# EAGLE library part RJ45-AMP (library graftel-internal-ic)
https://www.digikey.com/product-detail/en/te-connectivity-amp-connectors/6116075-4/6116075-4-ND/2259178
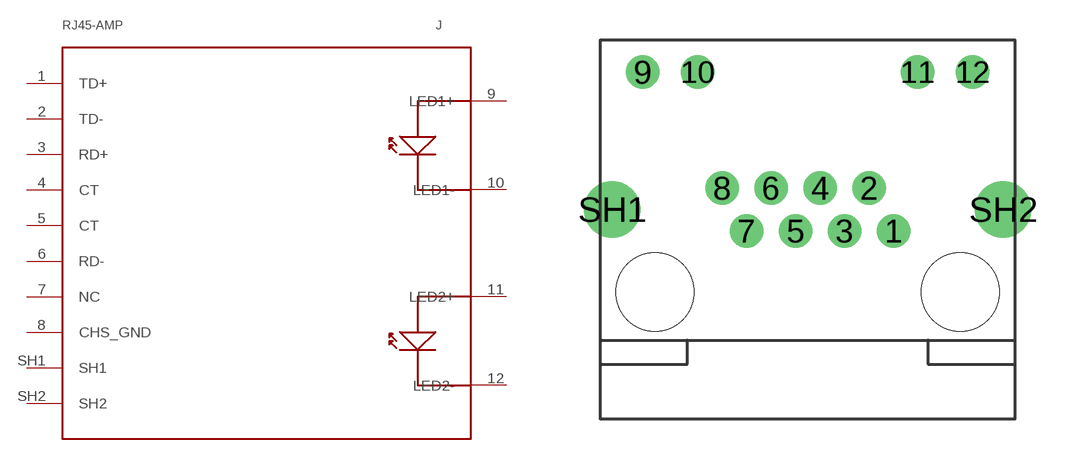
[diagram p38: symbol with the pads of RJ45-AMP; footprint RJ45-AMP]

Designator prefix J

## RJ45-AMP  [RJ45-AMP]
1  TD+
2  TD-
3  RD+
4  CT
5  CT
6  RD-
7  NC
8  CHS_GND
9  LED1+
10  LED1-
11  LED2+
12  LED2-
SH1  SH1
SH2  SH2

## Footprint RJ45-AMP (pad centres in mm)
drill 0.89: 1 3.58,2.54; 2 2.56,4.32; 3 1.54,2.54; 4 0.52,4.32; 5 -0.5,2.54; 6 -1.52,4.32; 7 -2.54,2.54; 8 -3.56,4.32; 9 -6.86,9.14; 10 -4.57,9.14; 11 4.57,9.14; 12 6.86,9.14
drill 1.57: SH1 -8.13,3.43; SH2 8.13,3.43
hole 3.25 at -6.35,0
hole 3.25 at 6.35,0